# EAGLE library part 1X07-SMD_HEADER (library hmcfabstudio)
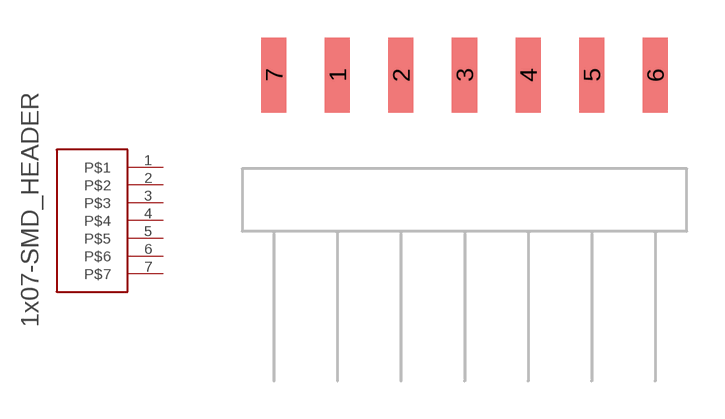
[diagram p15: symbol with the pads of 1X07-SMD_HEADER; footprint 1X07-SMD_HEADER]

Designator prefix -

## 1X07-SMD_HEADER  [1X07-SMD_HEADER]
1  P$1
2  P$2
3  P$3
4  P$4
5  P$5
6  P$6
7  P$7

## Footprint 1X07-SMD_HEADER (pad centres in mm)
smd 1 x 3: 1 -6.35,5; 2 -3.81,5; 3 -1.27,5; 4 1.27,5; 5 3.81,5; 6 6.35,5; 7 -8.89,5